# Altium footprint library ESP32-D0WDQ6.PcbLib: 1 footprints
Each footprint in its own frame and in the unit in brackets; x right, y up, seen from the top. Pads: shape width x height; smd on the part's side, far side on the other; paste and mask are expansions set on the pad; w line width, h text height; cw(c..) or ccw(c..) is an arc to the next point about the centre after c.
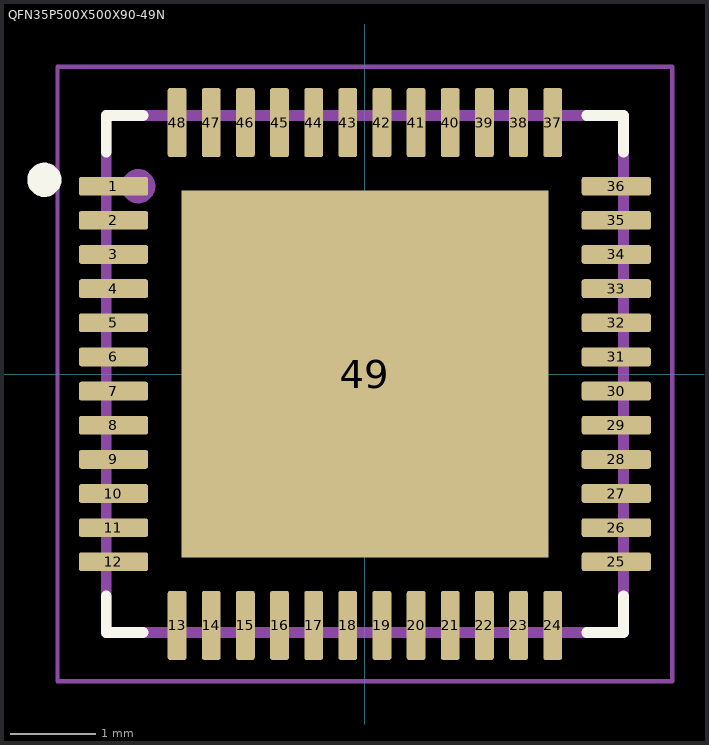
[diagram p0: the footprint, top view; thin cyan lines are the x and y axes]

## QFN35P500X500X90-49N [mm]
pads (49):
  rrect25% 0.81x0.22 smd: 1(-2.945,2.2) 2(-2.945,1.8) 3(-2.945,1.4) 4(-2.945,1) 5(-2.945,0.6) 6(-2.945,0.2) 7(-2.945,-0.2) 8(-2.945,-0.6) 9(-2.945,-1) 10(-2.945,-1.4) 11(-2.945,-1.8) 12(-2.945,-2.2) 25(2.945,-2.2) 26(2.945,-1.8) 27(2.945,-1.4) 28(2.945,-1) 29(2.945,-0.6) 30(2.945,-0.2) 31(2.945,0.2) 32(2.945,0.6) 33(2.945,1) 34(2.945,1.4) 35(2.945,1.8) 36(2.945,2.2)
  rrect25% 0.22x0.81 smd: 13(-2.2,-2.945) 14(-1.8,-2.945) 15(-1.4,-2.945) 16(-1,-2.945) 17(-0.6,-2.945) 18(-0.2,-2.945) 19(0.2,-2.945) 20(0.6,-2.945) 21(1,-2.945) 22(1.4,-2.945) 23(1.8,-2.945) 24(2.2,-2.945) 37(2.2,2.945) 38(1.8,2.945) 39(1.4,2.945) 40(1,2.945) 41(0.6,2.945) 42(0.2,2.945) 43(-0.2,2.945) 44(-0.6,2.945) 45(-1,2.945) 46(-1.4,2.945) 47(-1.8,2.945) 48(-2.2,2.945)
  rect 4.3x4.3 smd paste-0.789: 49(0,0)
Top Overlay:
  circle w0.2: c-3.755,2.275 r0.1
  lines w0.127: -3.03,-2.6 -3.03,-3.03 -2.6,-3.03 ; -3.03,2.6 -3.03,3.03 -2.6,3.03 ; 2.6,-3.03 3.03,-3.03 3.03,-2.6 ; 2.6,3.03 3.03,3.03 3.03,2.6
Mechanical 13:
  circle w0.2: c-2.655,2.2 r0.1
  lines w0.127: -3.03,-3.03 -3.03,3.03 3.03,3.03 3.03,-3.03 -3.03,-3.03
Mechanical 15:
  lines w0.05: -3.6,-3.6 -3.6,3.6 3.6,3.6 3.6,-3.6 -3.6,-3.6
3D body "step_temp.STEP": height 0.85, standoff -0.05, extent -3,-3 3,3